# Altium schematic symbol library SCH - RF - IC - TI CC1120.SCHLIB: 1 symbol
Pins are listed as number, name and electrical type; pins without a type are passive.

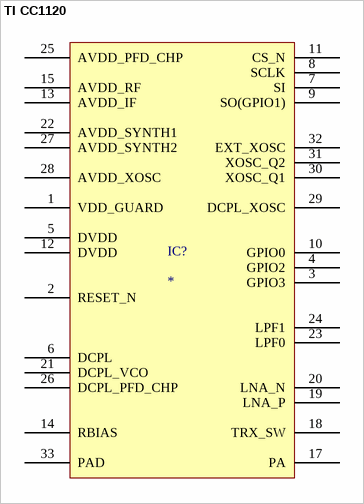
[diagram p0: symbol TI CC1120]

## TI CC1120
designator IC?
pins: 1 VDD_GUARD, 2 RESET_N, 3 GPIO3, 4 GPIO2, 5 DVDD, 6 DCPL, 7 SI, 8 SCLK, 9 SO(GPIO1), 10 GPIO0, 11 CS_N, 12 DVDD, 13 AVDD_IF, 14 RBIAS, 15 AVDD_RF, 17 PA, 18 TRX_SW, 19 LNA_P, 20 LNA_N, 21 DCPL_VCO, 22 AVDD_SYNTH1, 23 LPF0, 24 LPF1, 25 AVDD_PFD_CHP, 26 DCPL_PFD_CHP, 27 AVDD_SYNTH2, 28 AVDD_XOSC, 29 DCPL_XOSC, 30 XOSC_Q1, 31 XOSC_Q2, 32 EXT_XOSC, 33 PAD